# Altium schematic symbol library FMU3_REV_D.SCHLIB: 64 symbols
Pins are listed as number, name and electrical type; pins without a type are passive.

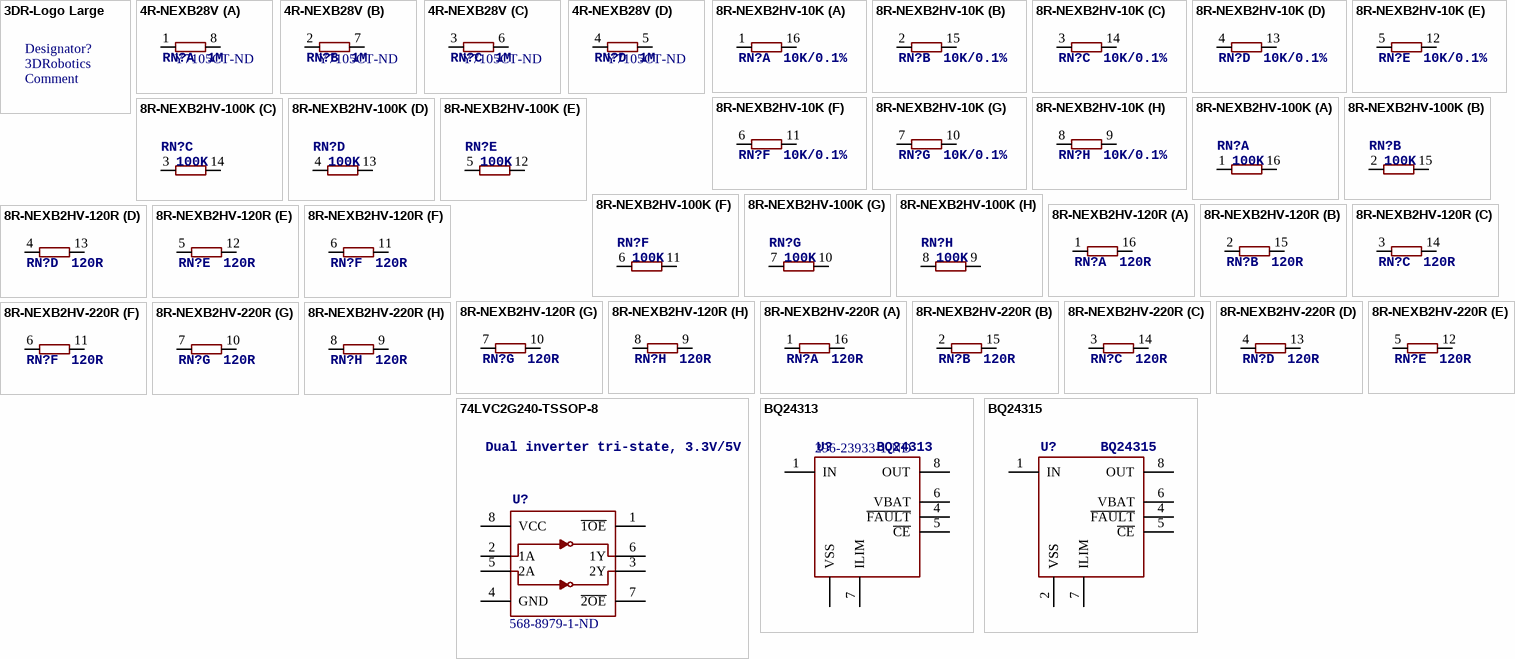
[diagram p0: symbols 3DR-Logo Large to BQ24315]

## 3DR-Logo Large
designator Designator?, comment Comment
PARTNO: DO NOT FIT
footprint 3DR-WORDMARK-LARGE
footprint 3DR_SMALL
text: 3DRobotics

## 4R-NEXB28V
designator RN?, comment 1M  Supplier Part Number 1: Y7105CT-ND
RES ARRAY 1M OHM 4 RES 0804; PARTNO: EXB-28V105JX; 3DR_PARTNO: ECM0805; OC_FARNELL: unknown; OC_NEWARK: unknown; Supplier 1: Digi-Key; Value: 1M
footprint EXB28V
footprint EXB28V
footprint EXB28V
footprint EXB28V
part A pins: 1, 8 2
part B pins: 2 1, 7 2
part C pins: 3 1, 6 2
part D pins: 4 1, 5 2

## 8R-NEXB2HV-10K
designator RN?, comment 10K/0.1%
RES ARRAY 10K OHM 8 RES 1506; PARTNO: EXB-2HV103JV; 3DR_PARTNO: ECM0546; OC_FARNELL: unknown; OC_NEWARK: unknown; Supplier 1: Digi-Key; Supplier Part Number 1: Y1103CT-ND; Value: 10K
footprint EXB2HV
footprint EXB2HV
footprint EXB2HV
footprint EXB2HV
footprint EXB2HV
footprint EXB2HV
footprint EXB2HV
footprint EXB2HV
part A pins: 1, 16 2
part B pins: 2 1, 15 2
part C pins: 3 1, 14 2
part D pins: 4 1, 13 2
part E pins: 5 1, 12 2
part F pins: 6 1, 11 2
part G pins: 7 1, 10 2
part H pins: 8 1, 9 2

## 8R-NEXB2HV-100K
designator RN?, comment 100K
RES ARRAY 100K OHM 8 RES 1506; PARTNO: EXB-2HV104JV; 3DR_PARTNO: ECM0101; OC_FARNELL: unknown; OC_NEWARK: unknown; Supplier 1: Digi-Key; Supplier Part Number 1: Y1104CT-ND; Value: 100K
footprint EXB2HV
footprint EXB2HV
footprint EXB2HV
footprint EXB2HV
footprint EXB2HV
footprint EXB2HV
footprint EXB2HV
footprint EXB2HV
part A pins: 1, 16 2
part B pins: 2 1, 15 2
part C pins: 3 1, 14 2
part D pins: 4 1, 13 2
part E pins: 5 1, 12 2
part F pins: 6 1, 11 2
part G pins: 7 1, 10 2
part H pins: 8 1, 9 2

## 8R-NEXB2HV-120R
designator RN?, comment 120R
RES ARRAY 120 OHM 8 RES 1506; PARTNO: EXB-2HV121JV; 3DR_PARTNO: EMC; OC_FARNELL: unknown; OC_NEWARK: unknown; Supplier 1: Digi-Key; Supplier Part Number 1: Y1121CT-ND; Value: 120R
footprint EXB2HV
footprint EXB2HV
footprint EXB2HV
footprint EXB2HV
footprint EXB2HV
footprint EXB2HV
footprint EXB2HV
footprint EXB2HV
part A pins: 1, 16 2
part B pins: 2 1, 15 2
part C pins: 3 1, 14 2
part D pins: 4 1, 13 2
part E pins: 5 1, 12 2
part F pins: 6 1, 11 2
part G pins: 7 1, 10 2
part H pins: 8 1, 9 2

## 8R-NEXB2HV-220R
designator RN?, comment 120R
RES ARRAY 120 OHM 8 RES 1506; PARTNO: EXB-2HV121JV; 3DR_PARTNO: ECM0266; OC_FARNELL: unknown; OC_NEWARK: unknown; Supplier 1: Digi-Key; Supplier Part Number 1: Y1121CT-ND; Value: 120R
footprint EXB2HV
footprint EXB2HV
footprint EXB2HV
footprint EXB2HV
footprint EXB2HV
footprint EXB2HV
footprint EXB2HV
footprint EXB2HV
part A pins: 1, 16 2
part B pins: 2 1, 15 2
part C pins: 3 1, 14 2
part D pins: 4 1, 13 2
part E pins: 5 1, 12 2
part F pins: 6 1, 11 2
part G pins: 7 1, 10 2
part H pins: 8 1, 9 2

## 74LVC2G240-TSSOP-8
designator U?, comment Dual inverter tri-state, 3.3V/5V  Supplier Part Number 1: 568-8979-1-ND
IC INVERTER DUAL 4-INPUT 8TSSOP; 3DR_PARTNO: ECM0817; PARTNO: 74LVC2G240DP,125; Value: INV; Supplier 1: Digi-Key
footprint TSSOP8_SOT505-2
pins: 1 ~{1OE}, 2 1A, 3 2Y, 4 GND, 5 2A, 6 1Y, 7 ~{2OE}, 8 VCC (oe)

## BQ24313
designator U?  Supplier Part Number 1: 296-23933-1-ND
IC LI+ CHARGER FRONT END 8-SON; 3DR_PARTNO: ECM0824; PARTNO: BQ24313DSGT; Supplier 1: Digi-Key
footprint QFN8-DSG
pins: 1 IN, 2 VSS hidden to GND, 4 ~{FAULT}, 5 ~{CE}, 6 VBAT, 7 ILIM, 8 OUT, GND VSS

## BQ24315
designator U?
IC LI+ CHARGER FRONT END 8SON; 3DR_PARTNO: ECM0541; Value: 3.3V-30V; Supplier 1: Digi-Key; Supplier Part Number 1: 296-32030-1-ND
footprint QFN8-DSG
pins: 1 IN, 2 VSS, 4 ~{FAULT}, 5 ~{CE}, 6 VBAT, 7 ILIM, 8 OUT, GND VSS

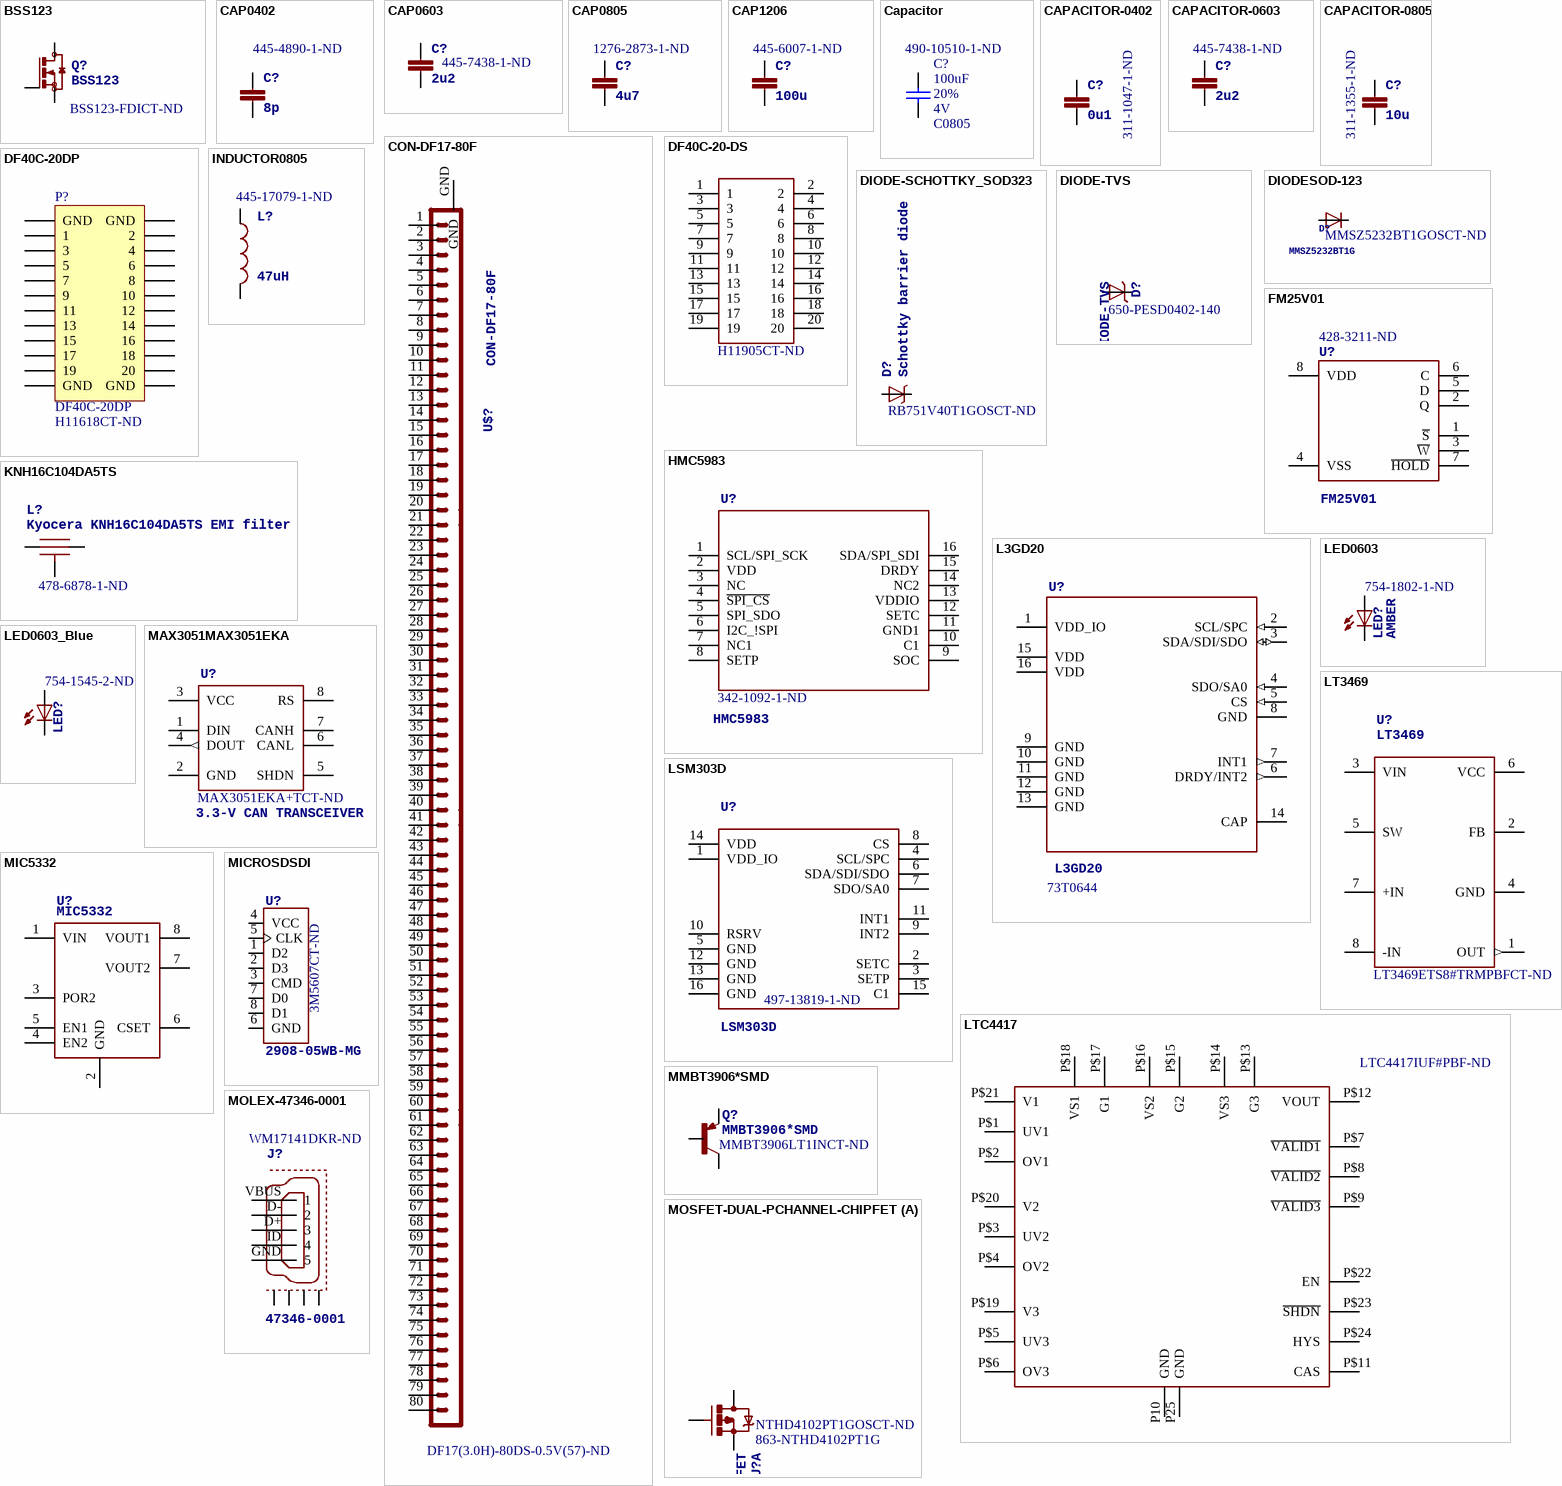
[diagram p1: symbols BSS123 to MOSFET-DUAL-PCHANNEL-CHIPFET]

## BSS123
designator Q?  Supplier Part Number 1: BSS123-FDICT-ND
MOSFET N-CH 100V 170MA SOT23-3; 3DR_PARTNO: ECM0547; PARTNO: BSS123; Supplier 1: Digi-Key; Value: 100V
footprint SOT23
pins: 1 G, 2 S, 3 D

## CAP0402
designator C?, comment 8p  Supplier Part Number 1: 445-4890-1-ND
CAP CER 8PF 50V C0G 0402; PARTNO: C1005C0G1H080C; 3DR_PARTNO: ECM0710; Supplier 1: Digi-Key; Value: 8p
footprint 0402-CAP
pins: P$1 1, P$2 2

## CAP0603
designator C?, comment 2u2  Supplier Part Number 1: 445-7438-1-ND
CAP CER 2.2UF 16V 10% X6S 0603; PARTNO: C1608X6S1C225K080AC; 3DR_PARTNO: ECM0619; Supplier 1: Digi-Key; Value: 2u2
footprint 0603-CAP
pins: P$1 1, P$2 2

## CAP0805
designator C?, comment 4u7  Supplier Part Number 1: 1276-2873-1-ND
CAP CER 4.7UF 16V 10% X7R 0805; PARTNO: CL21B475KOFNNNE; 3DR_PARTNO: ECM0622; DATASHEET: http://www.digikey.com/product-detail/en/CL21B475KOFNNNE/1276-2873-2-ND/3888531; Supplier 1: Digi-Key; Value: 4u7
footprint 0805
pins: 1, 2

## CAP1206
designator C?, comment 100u  Supplier Part Number 1: 445-6007-1-ND
CAP CER 100UF 10V 20% X5R 1206; PARTNO: C3216X5R1A107M160AC; 3DR_PARTNO: ECM0716; Supplier 1: Digi-Key; Value: 100U
footprint 1206-CAP
pins: P$1 1, P$2 2

## Capacitor
designator C?, comment value 100uF  Tolerance: 20%  Voltage: 4V  Supplier Part Number 1: 490-10510-1-ND  (hidden comment: GRM21BR60G107ME15L)
Supplier 1: Digi-Key
footprint C0402
footprint C0603 (0603-CAP)
footprint C0805
footprint C1206
footprint C1812
footprint C1210
pins: 1, 2

## CAPACITOR-0402
designator C?, comment 0u1  Supplier Part Number 1: 311-1047-1-ND
Capacitor, 0.1uF, 16V, Y5V, 0402, Ceramic; PARTNO: CC0402ZRY5V7BB104; 3DR_PARTNO: ECM0700; Supplier 1: Digi-Key; Value: 0u1
footprint 0402-CAP
pins: P$1 1, P$2 2

## CAPACITOR-0603
designator C?, comment 2u2  Supplier Part Number 1: 445-7438-1-ND
Capacitor, 2.2uF, 16V, 10%, X6S, 0603, Ceramic; PARTNO: C1608X6S1C225K080AC; 3DR_PARTNO: ECM0619; Supplier 1: Digi-Key; Value: 2u2
footprint 0603-CAP
pins: P$1 1, P$2 2

## CAPACITOR-0805
designator C?, comment 10u  Supplier Part Number 1: 311-1355-1-ND
Capacitor, 10uF, 10V, Y5V, 0805, Ceramic; PARTNO: CC0805ZKY5V6BB106; 3DR_PARTNO: ECM0713; Supplier 1: Digi-Key; Value: 10u
footprint 0805-CAP
pins: P$1 1, P$2 2

## CON-DF17-80F
designator U$?  Supplier Part Number 1: DF17(3.0H)-80DS-0.5V(57)-ND
CONN RECEPT 80POS .5MM SMD W/FIT; 3DR_PARTNO: ECM0518; PARTNO: DF17(3.0H)-80DS-0.5V(57); Supplier 1: Digi-Key
footprint CON-DF17-80F
pins: 1, 2, 3, 4, 5, 6, 7, 8, 9, 10, 11, 12, 13, 14, 15, 16, 17, 18, 19, 20, 21, 22, 23, 24, 25, 26, 27, 28, 29, 30, 31, 32, 33, 34, 35, 36, 37, 38, 39, 40, 41, 42, 43, 44, 45, 46, 47, 48, 49, 50, 51, 52, 53, 54, 55, 56, 57, 58, 59, 60, 61, 62, 63, 64, 65, 66, 67, 68, 69, 70, 71, 72, 73, 74, 75, 76, 77, 78, 79, 80, GND

## DF40C-20-DS
designator U$?  Supplier Part Number 1: H11905CT-ND  (hidden comment: DF40C-20-DS)
CONN RCPT 20POS 0.4MM SMD GOLD; 3DR_PARTNO: ECM0517; PARTNO: DF40C(2.0)-20DS-0.4V(51); Supplier 1: Digi-Key
footprint DF-40C-20DS
pins: 1, 2, 3, 4, 5, 6, 7, 8, 9, 10, 11, 12, 13, 14, 15, 16, 17, 18, 19, 20

## DF40C-20DP
designator P?  Supplier Part Number 1: H11618CT-ND
Connector, HDR, 20Pos, 0.4mm, SMD, GOLD; 3DR_PARTNO: ECM0510; Value: DF40C-20DP-0.4V(51); LatestRevisionDate: 17-Jul-2002; LatestRevisionNote: Re-released for DXP Platform.; Publisher: Altium Limited; Supplier 1: Digi-Key
signal-integrity model Connector
footprint DF40C-20-DP
pins: 1, 2, 3, 4, 5, 6, 7, 8, 9, 10, 11, 12, 13, 14, 15, 16, 17, 18, 19, 20, 21 GND, 22 GND, 23 GND, 24 GND

## DIODE-SCHOTTKY_SOD323
designator D?, comment Schottky barrier diode  Supplier Part Number 1: RB751V40T1GOSCT-ND
DIODE SCHOTTKY 30V 0.03A SOD323; 3DR_PARTNO: ECM0839; PARTNO: RB751V40T1G; Supplier 1: Digi-Key; Value: 30V
footprint SOD323
pins: A, C

## DIODE-TVS
designator D?  Supplier Part Number 1: 650-PESD0402-140
TVS DIODE 14VWM 40VC 0402; 3DR_PARTNO: ECM0837; PARTNO: PESD0402-140; Value: 40v; Supplier 1: Mouser
footprint 0402-TVS
pins: A, C

## DIODESOD-123
designator D?, comment MMSZ5232BT1G  Supplier Part Number 1: MMSZ5232BT1GOSCT-ND
DIODE ZENER 5.6V 500MW SOD123; 3DR_PARTNO: ECM0536; Supplier 1: Digi-Key; Value: 5.6V
footprint SOD-123
pins: A, C

## FM25V01
designator U?  Supplier Part Number 1: 428-3211-ND
IC FRAM 128KBIT 40MHZ 8SOIC; PARTNO: FM25V01-G; 3DR_PARTNO: ECM0826; Value: 128k; DATASHEET: http://www.ramtron.com/files/datasheets/FM25V01_ds.pdf; LINK: http://www.digikey.com/product-detail/en/FM25V01-GTR/1140-1026-1-ND/2809832; MFGPN: FM25V01; Supplier 1: Digi-Key
footprint SO08
pins: 1 ~{S}, 2 Q, 3 ~{W}, 4 VSS, 5 D, 6 C, 7 ~{HOLD}, 8 VDD

## HMC5983
designator U?  Supplier Part Number 1: 342-1092-1-ND
IC COMPASS 3 AXIS 16-LCC; 3DR_PARTNO: ECM0672; PARTNO: HMC5983; Supplier 1: Digi-Key
footprint HMC5983-new (HMC5983)
pins: 1 SCL/SPI_SCK, 2 VDD (power), 3 NC, 4 ~{SPI_CS}, 5 SPI_SDO, 6 I2C_!SPI, 7 NC1, 8 SETP, 9 SOC, 10 C1, 11 GND1, 12 SETC, 13 VDDIO (power), 14 NC2, 15 DRDY, 16 SDA/SPI_SDI

## INDUCTOR0805
designator L?, comment 47uH  Supplier Part Number 1: 445-17079-1-ND
FIXED IND 47UH 170MA 4.81 OHM; PARTNO: MLZ2012M470W; 3DR_PARTNO: ECM0814; Supplier 1: Digi-Key; Value: 47UH
footprint 0805-IND
pins: P$1 1, P$2 2

## KNH16C104DA5TS
designator L?, comment Kyocera KNH16C104DA5TS EMI filter  Supplier Part Number 1: 478-6878-1-ND
FILTER CAP 0.1UF 2A 25V 0603; 3DR_PARTNO: ECM0719; Value: 0u1; Supplier 1: Digi-Key; PARTNO: KNH16C104DA5TS
footprint KYOCERA-KNH16-DA
pins: GND, P$1, P$2

## L3GD20
designator U?  Supplier Part Number 1: 73T0644
Sensor, Low-power, Three-axis, Angular rate; 3DR_PARTNO: ECM0827; MFGPN: L3GD20; Supplier 1: Newark
footprint L3GD20 (4x4x1)
pins: 1 VDD_IO (power), 2 SCL/SPC (in), 3 SDA/SDI/SDO (io), 4 SDO/SA0 (in), 5 CS (in), 6 DRDY/INT2 (out), 7 INT1 (out), 8 GND (power), 9 GND (power), 10 GND (power), 11 GND (power), 12 GND (power), 13 GND (power), 14 CAP, 15 VDD (power), 16 VDD (power)

## LED0603
designator LED?, comment AMBER  Supplier Part Number 1: 754-1802-1-ND
LED 1.6X0.8 DOME ORN CLEAR SMD; PARTNO: APTD1608SECK; 3DR_PARTNO: ECM0515; Supplier 1: Digi-Key; Value: AMBER
footprint 0603-LED
pins: A, C

## LED0603_Blue
designator LED?, comment LED0603_Green  Supplier Part Number 1: 754-1545-2-ND
LED GREEN ROUND CLEAR SMD; 3DR_PARTNO: ECM0494; PARTNO: APTD1608CGCK; Supplier 1: Digi-Key; Value: GREEN
footprint 0603-LED-Blue (0603-LED_Blue)
pins: A, C

## LSM303D
designator U?  Supplier Part Number 1: 497-13819-1-ND
Module, 3D Accelerometer, 3D Magnetometer; 3DR_PARTNO: ECM0828; DATASHEET: http://www.st.com/internet/com/TECHNICAL_RESOURCES/TECHNICAL_LITERATURE/DATASHEET/DM00057547.pdf; LINK: http://www.st.com/internet/analog/product/253884.jsp; MFGPN: LSM303D; Supplier 1: Digi-Key
footprint LSM303D (LGA-16L)
pins: 1 VDD_IO, 2 SETC, 3 SETP, 4 SCL/SPC, 5 GND, 6 SDA/SDI/SDO, 7 SDO/SA0, 8 CS, 9 INT2, 10 RSRV, 11 INT1, 12 GND, 13 GND, 14 VDD, 15 C1, 16 GND

## LT3469
designator U?  Supplier Part Number 1: LT3469ETS8#TRMPBFCT-ND
IC AMP DVR W/REG 1.3MHZ TSOT23-8; 3DR_PARTNO: ECM0829; Value: BUZZER; Supplier 1: Digi-Key
footprint SOT23-8
pins: 1 OUT (out), 2 FB, 3 VIN, 4 GND, 5 SW, 6 VCC, 7 +IN, 8 -IN

## LTC4417
designator U?  Supplier Part Number 1: LTC4417IUF#PBF-ND  (hidden comment: LTC4417)
IC OR CTRLR SRC SELECT 24QFN; 3DR_PARTNO: ECM0830; Value: 3:1; Supplier 1: Digi-Key
footprint MO-220
pins: P10 GND, P25 GND, P$1 UV1, P$2 OV1, P$3 UV2, P$4 OV2, P$5 UV3, P$6 OV3, P$7 ~{VALID1}, P$8 ~{VALID2}, P$9 ~{VALID3}, P$11 CAS, P$12 VOUT, P$13 G3, P$14 VS3, P$15 G2, P$16 VS2, P$17 G1, P$18 VS1, P$19 V3, P$20 V2, P$21 V1, P$22 EN, P$23 ~{SHDN}, P$24 HYS

## MAX3051MAX3051EKA
designator U?, comment 3.3-V CAN TRANSCEIVER  Supplier Part Number 1: MAX3051EKA+TCT-ND
IC TXRX CAN 1MBPS SOT23-8; 3DR_PARTNO: ECM0831; PARTNO: MAX3051EKA+T; Supplier 1: Digi-Key; Value: CAN
footprint SOT23-8
pins: 1 DIN, 2 GND (oe), 3 VCC, 4 DOUT (out), 5 SHDN, 6 CANL, 7 CANH, 8 RS

## MIC5332
designator U?
IC REG LDO 3.3V 0.3A 8TMLF; 3DR_PARTNO: ECM0832; PARTNO: MIC5332-SSYMT TR; Supplier 1: Digi-Key; Value: 3.3V; Supplier Part Number 1: 576-4110-1-ND
footprint MLF-8-EPAD
pins: 1 VIN, 2 GND (power), 3 POR2, 4 EN2, 5 EN1, 6 CSET, 7 VOUT2, 8 VOUT1, GND

## MICROSDSDI
designator U?, comment 2908-05WB-MG  Supplier Part Number 1: 3M5607CT-ND
CONN MICRO SD CARD PUSH-PUSH R/A; 3DR_PARTNO: ECM0485; PARTNO: 2908-05WB-MG; Supplier 1: Digi-Key
footprint MICROSD
pins: 1 D2, 2 D3, 3 CMD, 4 VCC, 5 CLK, 6 GND, 7 D0, 8 D1

## MMBT3906*SMD
designator Q?  Supplier Part Number 1: MMBT3906LT1INCT-ND
TRANSISTOR SWITCHING PNP SOT-23; 3DR_PARTNO: ECM0833; PARTNO: MMBT 3906 LT1; Supplier 1: Digi-Key
footprint SOT23-BEC
pins: B, C, E

## MOLEX-47346-0001
designator J?, comment 47346-0001  Supplier Part Number 1: WM17141DKR-ND
MICRO USB B, BOTTOM MOUNT; 3DR_PARTNO: ECM0486; PARTNO: 0473460001; Supplier 1: Digi-Key
footprint MOLEX-47346-0001
pins: D+ 3, D- 2, GND 5, GND1, GND2, GND3, GND4, ID 4, VBUS 1 (oe)

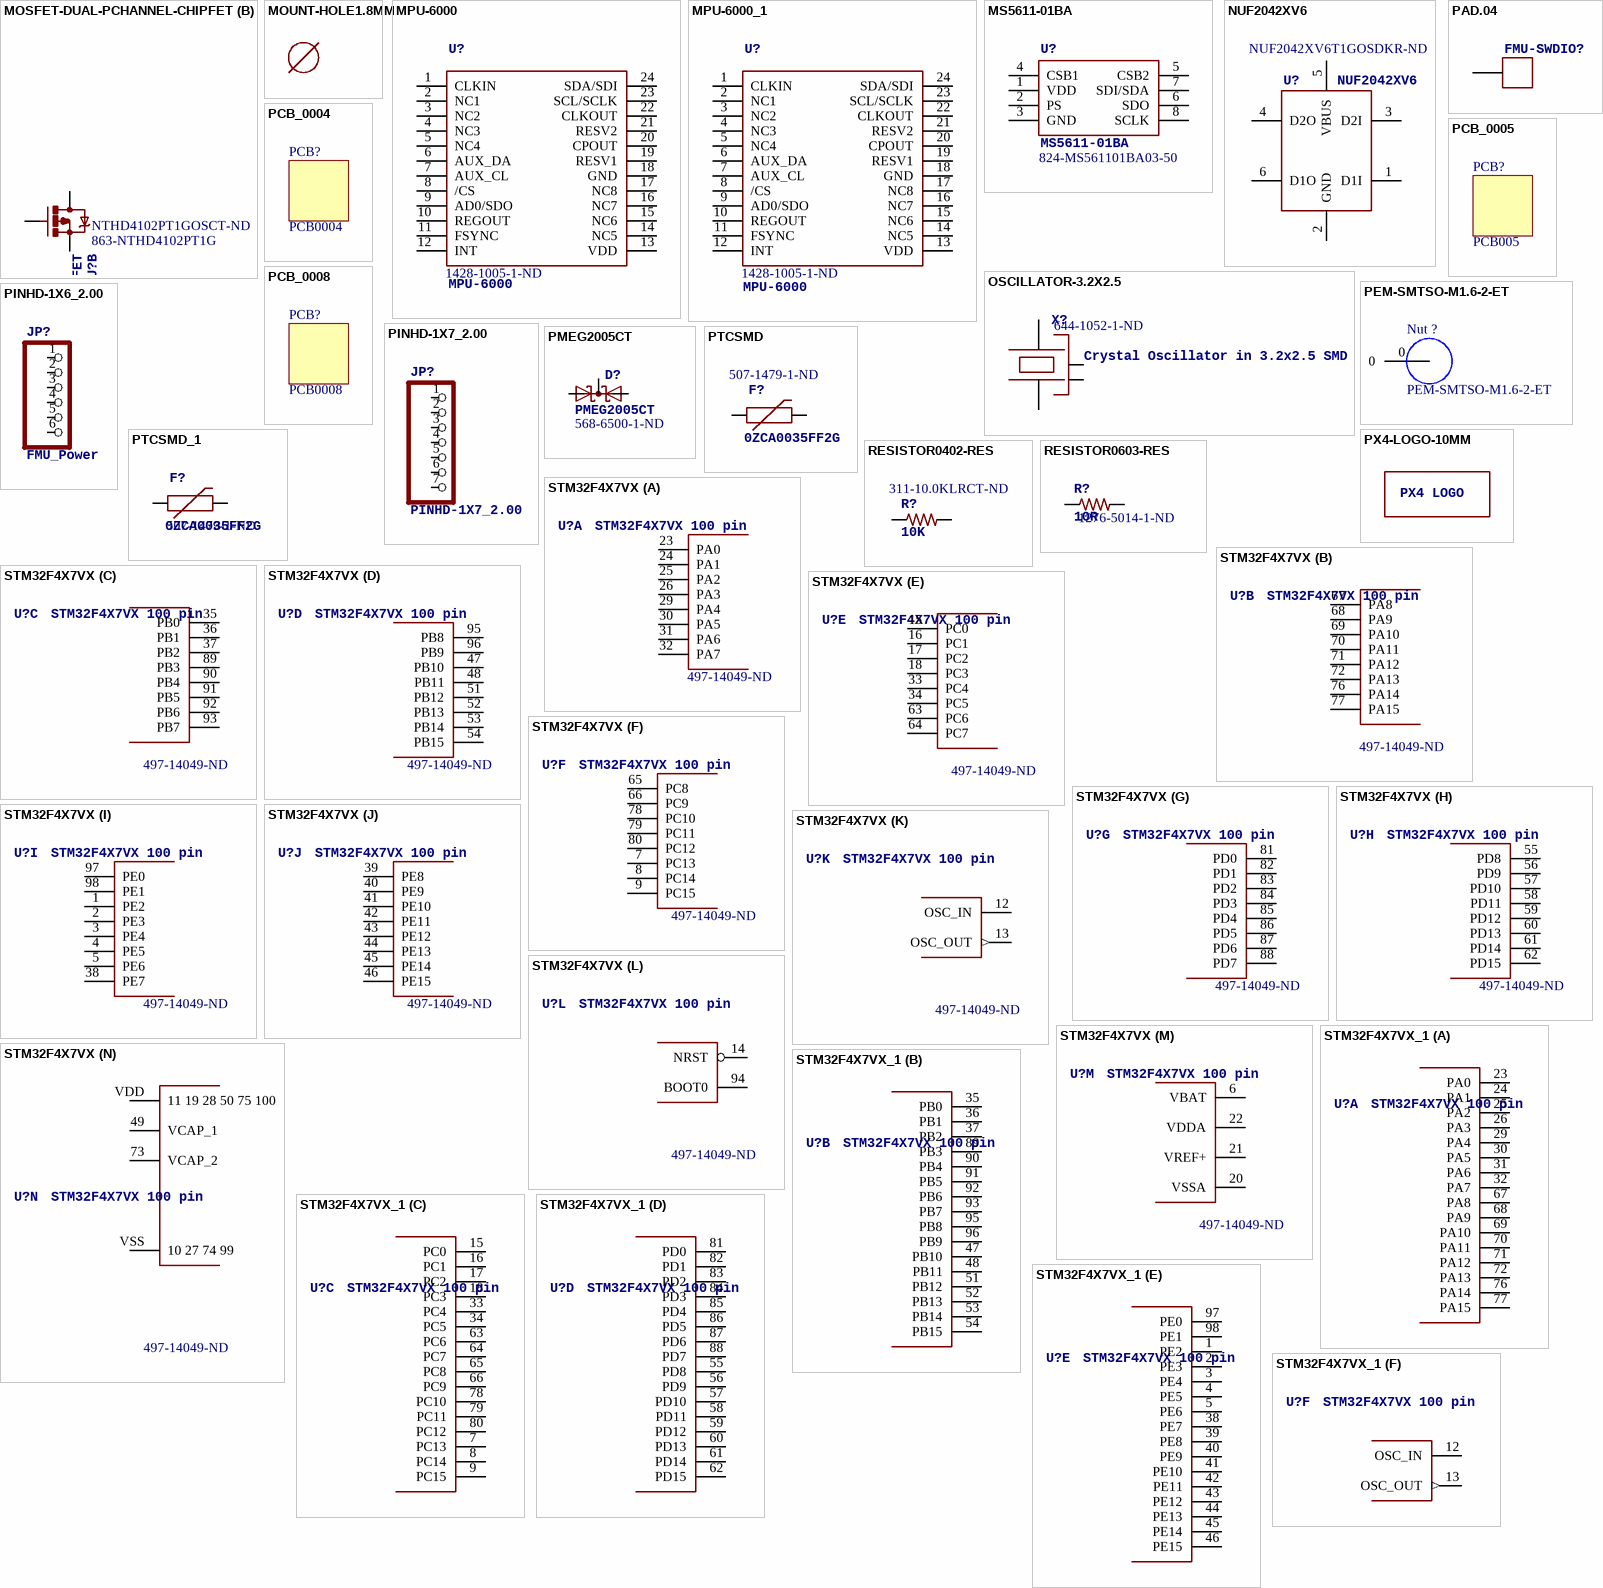
[diagram p2: symbols MOSFET-DUAL-PCHANNEL-CHIPFET to STM32F4X7VX_1]

## MOSFET-DUAL-PCHANNEL-CHIPFET
designator U?  Supplier Part Number 1: NTHD4102PT1GOSCT-ND  Supplier Part Number 2: 863-NTHD4102PT1G
MOSFET 2P-CH 20V 2.9A CHIPFET; 3DR_PARTNO: EMC0901; Supplier 1: Digi-Key; Supplier 2: Mouser; Value: 20V 2.9A
footprint 1206-8
part A pins: P1 S, P2 G, P7 D
part B pins: P3 S, P4 G, P5 D

## MOUNT-HOLE1.8MM
designator M3_MOUNT?  (value not drawn)
BOM: EXCLUDE; PARTNO: *
footprint MOUNT-HOLE1.8
footprint HOLE-3mm (Surface mount thread)

## MPU-6000
designator U?  Supplier Part Number 1: 1428-1005-1-ND
GYRO/ACCELEROMETER 6AXIS 24QFN; 3DR_PARTNO: ECM0834; DATASHEET: http://invensense.com/mems/gyro/documents/PS-MPU-6000A-00_v1.0.pdf; LINK: http://invensense.com/mems/gyro/mpu6000.html; MFGPN: MPU-6000; Supplier 1: Digi-Key; PARTNO: MPU-6000
footprint QFN-24
pins: 1 CLKIN, 2 NC1, 3 NC2, 4 NC3, 5 NC4, 6 AUX_DA, 7 AUX_CL, 8 /CS, 9 AD0/SDO, 10 REGOUT, 11 FSYNC, 12 INT, 13 VDD, 14 NC5, 15 NC6, 16 NC7, 17 NC8, 18 GND, 19 RESV1, 20 CPOUT, 21 RESV2, 22 CLKOUT, 23 SCL/SCLK, 24 SDA/SDI

## MPU-6000_1
designator U?, comment MPU-6000  Supplier Part Number 1: 1428-1005-1-ND
3 Axis Accel, 3Axis Gyro; 3DR_PARTNO: ECM0834; DATASHEET: http://invensense.com/mems/gyro/documents/PS-MPU-6000A-00_v1.0.pdf; LINK: http://invensense.com/mems/gyro/mpu6000.html; MFGPN: MPU-6000; Supplier 1: Digi-Key
footprint QFN-24
pins: 1 CLKIN, 2 NC1, 3 NC2, 4 NC3, 5 NC4, 6 AUX_DA, 7 AUX_CL, 8 /CS, 9 AD0/SDO, 10 REGOUT, 11 FSYNC, 12 INT, 13 VDD, 14 NC5, 15 NC6, 16 NC7, 17 NC8, 18 GND, 19 RESV1, 20 CPOUT, 21 RESV2, 22 CLKOUT, 23 SCL/SCLK, 24 SDA/SDI

## MS5611-01BA
designator U?  Supplier Part Number 1: 824-MS561101BA03-50
Board Mount Pressure Sensors; 3DR_PARTNO: ECM0835; Value: 10-1200mbar; DATASHEET: http://www.meas-spec.com/downloads/MS5611-01BA01.pdf; LINK: http://www.meas-spec.com/product/t_product.aspx?id=8503#; MFGPN: MS5611-01BA; PARTNO: MS5611-01BA; Supplier 1: Mouser
footprint MS5611-01BA
pins: 1 VDD, 2 PS, 3 GND, 4 CSB1, 5 CSB2, 6 SDO, 7 SDI/SDA, 8 SCLK

## NUF2042XV6
designator U?  Supplier Part Number 1: NUF2042XV6T1GOSDKR-ND
IC FILTER USB ESD PROTECT SOT363; PARTNO: NUF2042XV6T1G; 3DR_PARTNO: ECM0836; Supplier 1: Digi-Key
footprint SOT563-6
pins: 1 D1I, 2 GND, 3 D2I, 4 D2O, 5 VBUS, 6 D1O

## OSCILLATOR-3.2X2.5
designator X?, comment Crystal Oscillator in 3.2x2.5 SMD  Supplier Part Number 1: 644-1052-1-ND
CRYSTAL 24MHZ 8PF SMD; 3DR_PARTNO: ECM0708; PARTNO: NX3225SA-24.000MHZ-STD-CSR-1; Supplier 1: Digi-Key; Value: 24MHz
footprint OSCILLATOR-3.2X2.5
pins: 1, 2 NC_2, 3, 4 NC_4

## PAD.04
designator FMU-SWDIO?  (value not drawn)
BOM: EXCLUDE; PARTNO: *
footprint PAD.04X.04
pins: P$1

## PCB_0004
designator PCB?, comment PCB0004
IMU PCB; 3DR_PARTNO: PCB0004; Value: PCB0004

## PCB_0005
designator PCB?, comment PCB005
PCB,FMU, PX2, Board; 3DR_PARTNO: PCB005; Value: PCB005

## PCB_0008
designator PCB?, comment PCB0008
3DR_PARTNO: PCB0008; Value: PCB0008

## PEM-SMTSO-M1.6-2-ET
designator Nut ?
Fastener, M1.6x2mm, SMTSO, Carbon Steel; Mfg Part Num (Alternate): Check; Manufacturer 1: PennEngineering; 3DR_PARTNO: PRT0438; Manufacturer Part Number 1: PEM-SMTSO-M1.6-2-ET; Supplier Unit Price 1: 0.7; Supplier Part Number 1: PEM-SMTSO-M1.6-2-ET; Supplier 1: PennEngineering
footprint PEM-SMTSO-M1.6-2-ET (Surface mount thread)
pins: 0

## PINHD-1X6_2.00
designator JP?, comment FMU_Power
<b>PIN HEADER</b>
footprint 1X06M
pins: 1, 2, 3, 4, 5, 6

## PINHD-1X7_2.00
designator JP?
<b>PIN HEADER</b>
footprint 1X07M
pins: 1, 2, 3, 4, 5, 6, 7

## PMEG2005CT
designator D?  Supplier Part Number 1: 568-6500-1-ND
DIODE SCHOTTKY 20V 500MA TO236AB; 3DR_PARTNO: ECM0838; PARTNO: PMEG2005CT; Supplier 1: Digi-Key; Value: 20V
footprint SOT23-3
pins: 1 A1, 2 A2, 3 CC

## PTCSMD
designator F?, comment 0ZCA0035FF2G  Supplier Part Number 1: 507-1479-1-ND
PTC RESTTBLE 0.35A 16V CHIP 1206; 3DR_PARTNO: ECM0802; PARTNO: 0ZCA0035FF2G; Supplier 1: Digi-Key; Value: 0.35A
footprint PTC-1206
pins: 1, 2

## PTCSMD_1
designator F?, comment 0ZCA0035FF2G  Supplier Part Number 1: 507-1479-1-ND
PTC RESTTBLE 0.35A 16V CHIP 1206; 3DR_PARTNO: ECM0802; PARTNO: 0ZCA0035FF2G; Supplier 1: Digi-Key; Value: 0.35A
footprint PTC-1206
pins: 1, 2

## PX4-LOGO-10MM
designator U$?  (value not drawn)
PX4 LOGO: PX4 LOGO
footprint PX4-LOGO-10MM

## RESISTOR0402-RES
designator R?, comment 10K  Supplier Part Number 1: 311-10.0KLRCT-ND
RES 10K OHM 1/16W 1% 0402 SMD; PARTNO: RC0402FR-0710KL; 3DR_PARTNO: ECM0800; Supplier 1: Digi-Key; Value: 10K
footprint 0402-RES
pins: P$1 1, P$2 2

## RESISTOR0603-RES
designator R?, comment 10R  Supplier Part Number 1: 1276-5014-1-ND
RES 10 OHM 1/10W 5% 0603; PARTNO: RC1608J100CS; 3DR_PARTNO: ECM0811; Supplier 1: Digi-Key; Value: 10R
footprint 0603-RES
pins: 1, 2

## STM32F4X7VX
designator U?, comment STM32F4X7VX 100 pin  Supplier Part Number 1: 497-14049-ND
REV 3 Silicon or later IC MCU ARM 2MB FLASH 100LQFP; 3DR_PARTNO: ECM0841; Supplier 1: Digi-Key
footprint TQFP100
part A pins: 23 PA0, 24 PA1, 25 PA2, 26 PA3, 29 PA4, 30 PA5, 31 PA6, 32 PA7
part B pins: 67 PA8, 68 PA9, 69 PA10, 70 PA11, 71 PA12, 72 PA13, 76 PA14, 77 PA15
part C pins: 35 PB0, 36 PB1, 37 PB2, 89 PB3, 90 PB4, 91 PB5, 92 PB6, 93 PB7
part D pins: 47 PB10, 48 PB11, 51 PB12, 52 PB13, 53 PB14, 54 PB15, 95 PB8, 96 PB9
part E pins: 15 PC0, 16 PC1, 17 PC2, 18 PC3, 33 PC4, 34 PC5, 63 PC6, 64 PC7
part F pins: 7 PC13, 8 PC14, 9 PC15, 65 PC8, 66 PC9, 78 PC10, 79 PC11, 80 PC12
part G pins: 81 PD0, 82 PD1, 83 PD2, 84 PD3, 85 PD4, 86 PD5, 87 PD6, 88 PD7
part H pins: 55 PD8, 56 PD9, 57 PD10, 58 PD11, 59 PD12, 60 PD13, 61 PD14, 62 PD15
part I pins: 1 PE2, 2 PE3, 3 PE4, 4 PE5, 5 PE6, 38 PE7, 97 PE0, 98 PE1
part J pins: 39 PE8, 40 PE9, 41 PE10, 42 PE11, 43 PE12, 44 PE13, 45 PE14, 46 PE15
part K pins: 12 OSC_IN, 13 OSC_OUT (out)
part L pins: 14 NRST, 94 BOOT0
part M pins: 6 VBAT (power), 20 VSSA (power), 21 VREF+, 22 VDDA (power)
part N pins: 49 VCAP_1 (power), 73 VCAP_2 (power), VDD 11 19 28 50 75 100 (power), VSS 10 27 74 99 (power)

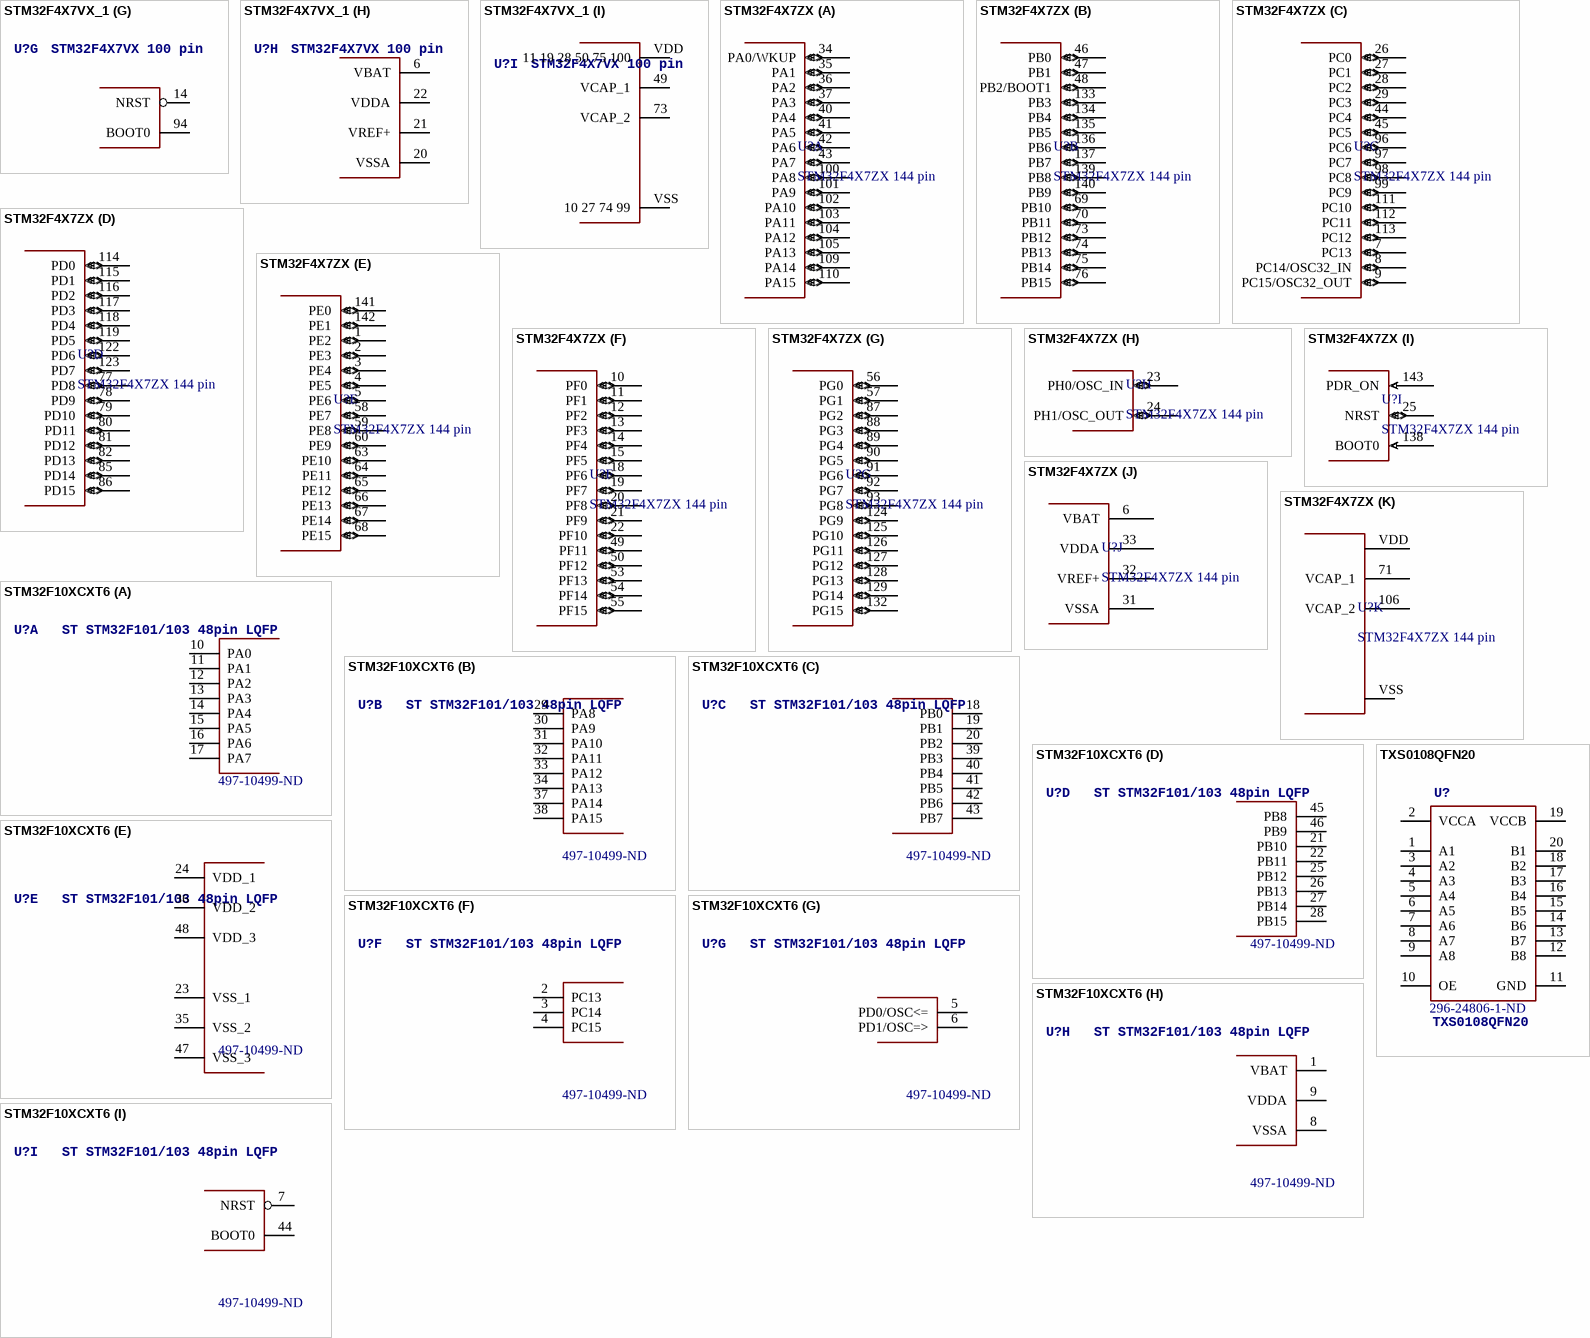
[diagram p3: symbols STM32F4X7VX_1 to TXS0108QFN20]

## STM32F4X7VX_1
designator U?, comment STM32F4X7VX 100 pin
REV 3 Silicon or later IC MCU ARM 2MB FLASH 100LQFP; 3DR_PARTNO: ECM0841; Supplier 1: Digi-Key
footprint TQFP100
part A pins: 23 PA0, 24 PA1, 25 PA2, 26 PA3, 29 PA4, 30 PA5, 31 PA6, 32 PA7, 67 PA8, 68 PA9, 69 PA10, 70 PA11, 71 PA12, 72 PA13, 76 PA14, 77 PA15
part B pins: 35 PB0, 36 PB1, 37 PB2, 47 PB10, 48 PB11, 51 PB12, 52 PB13, 53 PB14, 54 PB15, 89 PB3, 90 PB4, 91 PB5, 92 PB6, 93 PB7, 95 PB8, 96 PB9
part C pins: 7 PC13, 8 PC14, 9 PC15, 15 PC0, 16 PC1, 17 PC2, 18 PC3, 33 PC4, 34 PC5, 63 PC6, 64 PC7, 65 PC8, 66 PC9, 78 PC10, 79 PC11, 80 PC12
part D pins: 55 PD8, 56 PD9, 57 PD10, 58 PD11, 59 PD12, 60 PD13, 61 PD14, 62 PD15, 81 PD0, 82 PD1, 83 PD2, 84 PD3, 85 PD4, 86 PD5, 87 PD6, 88 PD7
part E pins: 1 PE2, 2 PE3, 3 PE4, 4 PE5, 5 PE6, 38 PE7, 39 PE8, 40 PE9, 41 PE10, 42 PE11, 43 PE12, 44 PE13, 45 PE14, 46 PE15, 97 PE0, 98 PE1
part F pins: 12 OSC_IN, 13 OSC_OUT (out)
part G pins: 14 NRST, 94 BOOT0
part H pins: 6 VBAT (power), 20 VSSA (power), 21 VREF+, 22 VDDA (power)
part I pins: 49 VCAP_1 (power), 73 VCAP_2 (power), VDD 11 19 28 50 75 100 (power), VSS 10 27 74 99 (power)

## STM32F4X7ZX
designator U?, comment STM32F4X7ZX 144 pin
REV 3 Silicon or later IC MCU ARM 2MB FLASH 144LQFP; Manufacturer_Part_Number: stm32f4xxz1; Vendor: STMicroelectronics; C: Copyright (C) 2016 Accelerated Designs. All rights reserved; Copyright: Copyright (C) 2016 Accelerated Designs. All rights reserved; RefDes: RefDes; Type: Type; Value: Value
footprint LQFP144 (check VDD&VSS pins)
part A pins: 34 PA0/WKUP (io), 35 PA1 (io), 36 PA2 (io), 37 PA3 (io), 40 PA4 (io), 41 PA5 (io), 42 PA6 (io), 43 PA7 (io), 100 PA8 (io), 101 PA9 (io), 102 PA10 (io), 103 PA11 (io), 104 PA12 (io), 105 PA13 (io), 109 PA14 (io), 110 PA15 (io)
part B pins: 46 PB0 (io), 47 PB1 (io), 48 PB2/BOOT1 (io), 69 PB10 (io), 70 PB11 (io), 73 PB12 (io), 74 PB13 (io), 75 PB14 (io), 76 PB15 (io), 133 PB3 (io), 134 PB4 (io), 135 PB5 (io), 136 PB6 (io), 137 PB7 (io), 139 PB8 (io), 140 PB9 (io)
part C pins: 7 PC13 (io), 8 PC14/OSC32_IN (io), 9 PC15/OSC32_OUT (io), 26 PC0 (io), 27 PC1 (io), 28 PC2 (io), 29 PC3 (io), 44 PC4 (io), 45 PC5 (io), 96 PC6 (io), 97 PC7 (io), 98 PC8 (io), 99 PC9 (io), 111 PC10 (io), 112 PC11 (io), 113 PC12 (io)
part D pins: 77 PD8 (io), 78 PD9 (io), 79 PD10 (io), 80 PD11 (io), 81 PD12 (io), 82 PD13 (io), 85 PD14 (io), 86 PD15 (io), 114 PD0 (io), 115 PD1 (io), 116 PD2 (io), 117 PD3 (io), 118 PD4 (io), 119 PD5 (io), 122 PD6 (io), 123 PD7 (io)
part E pins: 1 PE2 (io), 2 PE3 (io), 3 PE4 (io), 4 PE5 (io), 5 PE6 (io), 58 PE7 (io), 59 PE8 (io), 60 PE9 (io), 63 PE10 (io), 64 PE11 (io), 65 PE12 (io), 66 PE13 (io), 67 PE14 (io), 68 PE15 (io), 141 PE0 (io), 142 PE1 (io)
part F pins: 10 PF0 (io), 11 PF1 (io), 12 PF2 (io), 13 PF3 (io), 14 PF4 (io), 15 PF5 (io), 18 PF6 (io), 19 PF7 (io), 20 PF8 (io), 21 PF9 (io), 22 PF10 (io), 49 PF11 (io), 50 PF12 (io), 53 PF13 (io), 54 PF14 (io), 55 PF15 (io)
part G pins: 56 PG0 (io), 57 PG1 (io), 87 PG2 (io), 88 PG3 (io), 89 PG4 (io), 90 PG5 (io), 91 PG6 (io), 92 PG7 (io), 93 PG8 (io), 124 PG9 (io), 125 PG10 (io), 126 PG11 (io), 127 PG12 (io), 128 PG13 (io), 129 PG14 (io), 132 PG15 (io)
part H pins: 23 PH0/OSC_IN (io), 24 PH1/OSC_OUT (io)
part I pins: 25 NRST (io), 138 BOOT0 (in), 143 PDR_ON (in)
part J pins: 6 VBAT (power), 31 VSSA (power), 32 VREF+ (power), 33 VDDA (power)
part K pins: 71 VCAP_1 (power), 106 VCAP_2 (power), VDD 17 30 39 52 62 72 84 95 108 121 131 144 (power), VSS 16 38 51 61 83 94 107 120 130 (power)

## STM32F10XCXT6
designator U?, comment ST STM32F101/103 48pin LQFP  Supplier Part Number 1: 497-10499-ND
MCU 32BIT ARM 64K FLASH 48LQFP; 3DR_PARTNO: EMC0842; Supplier 1: Digi-Key
footprint TQFP48
part A pins: 10 PA0, 11 PA1, 12 PA2, 13 PA3, 14 PA4, 15 PA5, 16 PA6, 17 PA7
part B pins: 29 PA8, 30 PA9, 31 PA10, 32 PA11, 33 PA12, 34 PA13, 37 PA14, 38 PA15
part C pins: 18 PB0, 19 PB1, 20 PB2, 39 PB3, 40 PB4, 41 PB5, 42 PB6, 43 PB7
part D pins: 21 PB10, 22 PB11, 25 PB12, 26 PB13, 27 PB14, 28 PB15, 45 PB8, 46 PB9
part E pins: 23 VSS_1 (power), 24 VDD_1 (power), 35 VSS_2 (power), 36 VDD_2 (power), 47 VSS_3 (power), 48 VDD_3 (power)
part F pins: 2 PC13, 3 PC14, 4 PC15
part G pins: 5 PD0/OSC<=, 6 PD1/OSC=>
part H pins: 1 VBAT (power), 8 VSSA (power), 9 VDDA (power)
part I pins: 7 NRST, 44 BOOT0

## TXS0108QFN20
designator U?  Supplier Part Number 1: 296-24806-1-ND
IC XLATR VOLT-LVL 8B BDIR 20QFN; 3DR_PARTNO: ECM0845; PARTNO: TXS0108ERGYR; Supplier 1: Digi-Key
footprint QFN20-RGY
pins: 1 A1, 2 VCCA, 3 A2, 4 A3, 5 A4, 6 A5, 7 A6, 8 A7, 9 A8, 10 OE, 11 GND, 12 B8, 13 B7, 14 B6, 15 B5, 16 B4, 17 B3, 18 B2, 19 VCCB, 20 B1